# Altium footprint library Radial_12.5x17mm_SMD.PcbLib: 1 footprints
Each footprint in its own frame and in the unit in brackets; x right, y up, seen from the top. Pads: shape width x height; smd on the part's side, far side on the other; paste and mask are expansions set on the pad; w line width, h text height; cw(c..) or ccw(c..) is an arc to the next point about the centre after c.
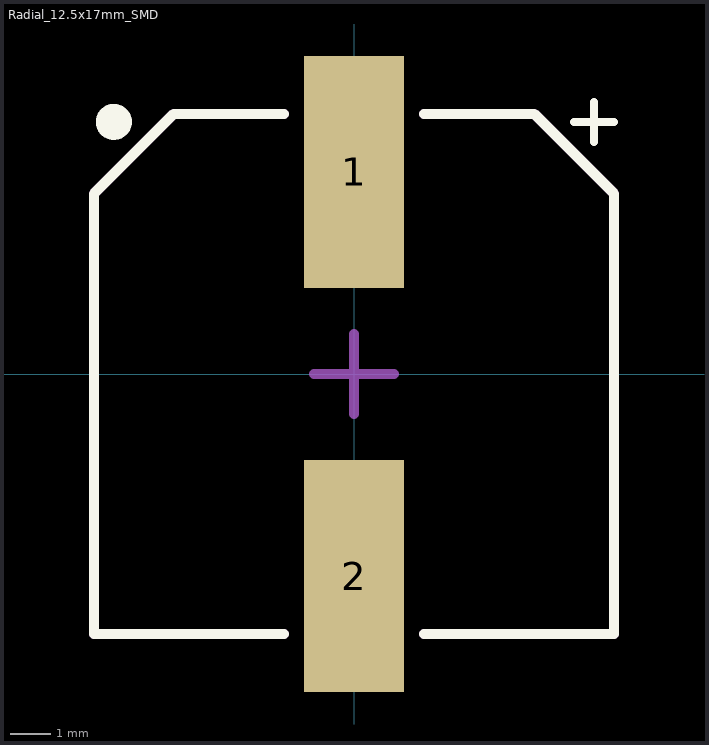
[diagram p0: the footprint, top view; thin cyan lines are the x and y axes]

## Radial_12.5x17mm_SMD [mm]
pads (2):
  rect 2.5x5.8 smd paste+0 mask+0: 1(0,5.05) 2(0,-5.05)
Top Overlay:
  circle w0.5: c-6,6.3 r0.2
  lines w0.2: 5.5,6.3 6.5,6.3 ; 6,5.8 6,6.8
  lines w0.254: -1.75,-6.5 -6.5,-6.5 -6.5,4.5 -4.5,6.5 -1.75,6.5 ; 1.75,-6.5 6.5,-6.5 6.5,4.5 4.5,6.5 1.75,6.5
Top Designator:
  text ".Designator" at -7.618,-0.508 h1.52
3D Body:
  lines w0.254: -1.75,-6.5 -6.5,-6.5 -6.5,4.5 -4.5,6.5 -1.75,6.5 ; 1.75,-6.5 6.5,-6.5 6.5,4.5 4.5,6.5 1.75,6.5
Center Cross:
  lines w0.254: -1,0 1,0 ; 0,-1 0,1
3D body "CAP_S-V_12P5X16_RUB.step": height 16.56, standoff 0, extent -6.604,-7.15 6.604,7.15